# EAGLE library part 128X32_VISHAY (library ds_displays)
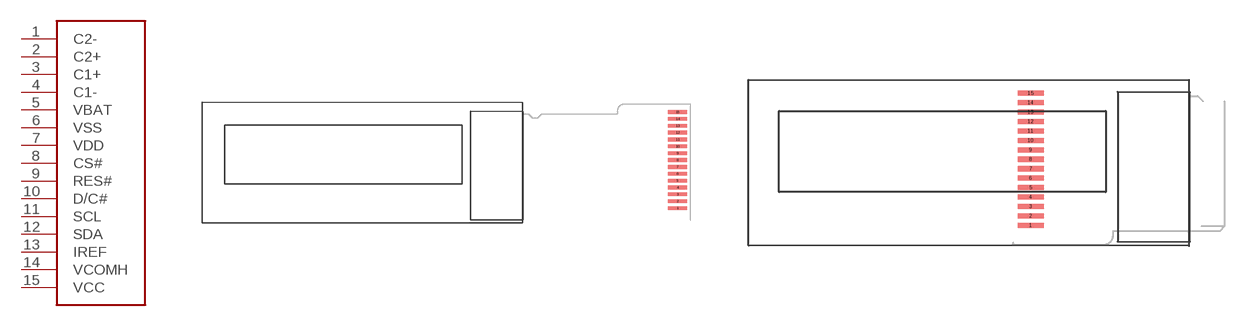
[diagram p1: symbol with the pads of 128X32_VISHAY; footprints 128X32_VISHAY, 128X32.2]

Designator prefix -

## 128X32_VISHAY  [128X32_VISHAY]
1  C2-
2  C2+
3  C1+
4  C1-
5  VBAT
6  VSS
7  VDD
8  CS#
9  RES#
10  D/C#
11  SCL
12  SDA
13  IREF
14  VCOMH
15  VCC

## 128X32_VISHAYFOLDED  [128X32.2]
Pads as for 128X32_VISHAY

## Footprint 128X32_VISHAY (pad centres in mm)
smd 1.8 x 0.35: 1 31.85,-4.55; 2 31.85,-3.9; 3 31.85,-3.25; 4 31.85,-2.6; 5 31.85,-1.95; 6 31.85,-1.3; 7 31.85,-0.65; 8 31.85,0; 9 31.85,0.65; 10 31.85,1.3; 11 31.85,1.95; 12 31.85,2.6; 13 31.85,3.25; 14 31.85,3.9; 15 31.85,4.55

## Footprint 128X32.2 (pad centres in mm)
smd 1.8 x 0.35: 1 6.25,-4.55; 2 6.25,-3.9; 3 6.25,-3.25; 4 6.25,-2.6; 5 6.25,-1.95; 6 6.25,-1.3; 7 6.25,-0.65; 8 6.25,0; 9 6.25,0.65; 10 6.25,1.3; 11 6.25,1.95; 12 6.25,2.6; 13 6.25,3.25; 14 6.25,3.9; 15 6.25,4.55